# EAGLE library part MALE_2X5 (library be_con_jump)
drawn: Mario Blunk / Blunk electronic
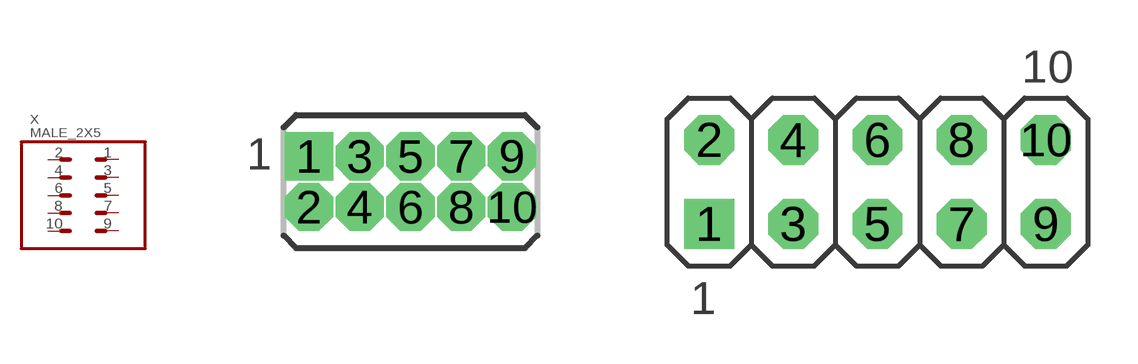
[diagram p10: symbol with the pads of T_MALE_2X5_VERTICAL_PITCH_1MM27; footprints T_MALE_2X5_VERTICAL_PITCH_1MM27, T_MALE_2X5_VERTICAL_PITCH_2MM54]

Designator prefix X

## MALE_2X5-T-VERTICAL_1MM27 (BOM: YES; COMMISSIONED: 2013-12-16; PART_CODE_BEL: X_PAC_T_MALE_2X5_VERTICAL_PITCH_1mm27)  [T_MALE_2X5_VERTICAL_PITCH_1MM27]
1  1  pas
2  2  pas
3  3  pas
4  4  pas
5  5  pas
6  6  pas
7  7  pas
8  8  pas
9  9  pas
10  10  pas

## MALE_2X5-T-VERTICAL_2MM54 (BOM: YES; COMMISSIONED: 2013-12-16; PART_CODE_BEL: X_PAC_T_MALE_2X5_VERTICAL_PITCH_2mm54)  [T_MALE_2X5_VERTICAL_PITCH_2MM54]
Pads as for T_MALE_2X5_VERTICAL_PITCH_1MM27

## Footprint T_MALE_2X5_VERTICAL_PITCH_1MM27 (pad centres in mm)
edited: Mario Blunk / Blunk electronic date: 2019-02-11
drill 0.7 pad 1.05 square: 1 -2.54,0.635
drill 0.7 pad 1.05 octagon: 2 -2.54,-0.635; 3 -1.27,0.635; 4 -1.27,-0.635; 5 0,0.635; 6 0,-0.635; 7 1.27,0.635; 8 1.27,-0.635; 9 2.54,0.635; 10 2.54,-0.635

## Footprint T_MALE_2X5_VERTICAL_PITCH_2MM54 (pad centres in mm)
edited: Mario Blunk date: 2019-02-11
drill 1 square: 1 -5.08,-1.27
drill 1 octagon: 2 -5.08,1.27; 3 -2.54,-1.27; 4 -2.54,1.27; 5 0,-1.27; 6 0,1.27; 7 2.54,-1.27; 8 2.54,1.27; 9 5.08,-1.27; 10 5.08,1.27